# EAGLE library part IIS2MDCTR (library IIS2MDCTR)
STMICROELECTRONICS - IIS2MDCTR - MEMS MODULE, 3-AXIS MAGNETOMETER, LGA-12 Source: Datasheet <https://www.st.com/resource/en/datasheet/iis2mdc.pdf>
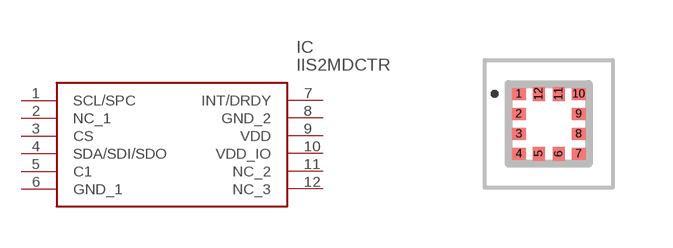
[diagram p0: symbol with the pads of IIS2MDCTR; footprint IIS2MDCTR]

Designator prefix IC

## IIS2MDCTR (Arrow_Part_Number: IIS2MDCTR; Arrow_Price-Stock: https://www.arrow.com/en/products/iis2mdctr/stmicroelectronics.html?utm_currency=USD&region=europe; Description: STMICROELECTRONICS - IIS2MDCTR - MEMS MODULE, 3-AXIS MAGNETOMETER, LGA-12; Height: 0.7mm; Manufacturer_Name: STMicroelectronics; Manufacturer_Part_Number: IIS2MDCTR; Mouser_Part_Number: 511-IIS2MDCTR; Mouser_Price-Stock: https://www.mouser.co.uk/ProductDetail/STMicroelectronics/IIS2MDCTR?qs=1mbolxNpo8ems1K%2FRdQzXg%3D%3D)  [IIS2MDCTR]
1  SCL/SPC
2  NC_1
3  CS
4  SDA/SDI/SDO
5  C1
6  GND_1
7  INT/DRDY
8  GND_2
9  VDD
10  VDD_IO
11  NC_2
12  NC_3

## Footprint IIS2MDCTR (pad centres in mm)
LGA-12 XDM
smd 0.35 x 0.3: 1 -0.75,0.75; 2 -0.75,0.25; 3 -0.75,-0.25; 4 -0.75,-0.75; 7 0.75,-0.75; 8 0.75,-0.25; 9 0.75,0.25; 10 0.75,0.75
smd 0.3 x 0.35: 5 -0.25,-0.75; 6 0.25,-0.75; 11 0.25,0.75; 12 -0.25,0.75